# Altium footprint library PCB - LEADED - TI DGG-R-PDSO-G48N.PCBLIB: 1 footprints
Each footprint in its own frame and in the unit in brackets; x right, y up, seen from the top. Pads: shape width x height; smd on the part's side, far side on the other; paste and mask are expansions set on the pad; w line width, h text height; cw(c..) or ccw(c..) is an arc to the next point about the centre after c.
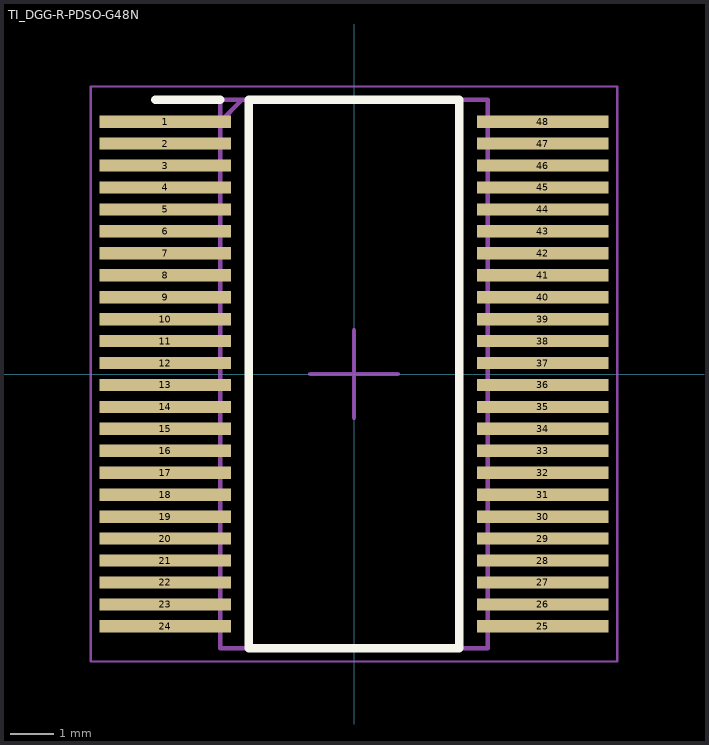
[diagram p0: the footprint, top view; thin cyan lines are the x and y axes]

## TI_DGG-R-PDSO-G48N [mm]
pads (48):
  rect 3x0.28 smd mask+0.05: 1(-4.3,5.75) 2(-4.3,5.25) 3(-4.3,4.75) 4(-4.3,4.25) 5(-4.3,3.75) 6(-4.3,3.25) 7(-4.3,2.75) 8(-4.3,2.25) 9(-4.3,1.75) 10(-4.3,1.25) 11(-4.3,0.75) 12(-4.3,0.25) 13(-4.3,-0.25) 14(-4.3,-0.75) 15(-4.3,-1.25) 16(-4.3,-1.75) 17(-4.3,-2.25) 18(-4.3,-2.75) 19(-4.3,-3.25) 20(-4.3,-3.75) 21(-4.3,-4.25) 22(-4.3,-4.75) 23(-4.3,-5.25) 24(-4.3,-5.75) 25(4.3,-5.75) 26(4.3,-5.25) 27(4.3,-4.75) 28(4.3,-4.25) 29(4.3,-3.75) 30(4.3,-3.25) 31(4.3,-2.75) 32(4.3,-2.25) 33(4.3,-1.75) 34(4.3,-1.25) 35(4.3,-0.75) 36(4.3,-0.25) 37(4.3,0.25) 38(4.3,0.75) 39(4.3,1.25) 40(4.3,1.75) 41(4.3,2.25) 42(4.3,2.75) 43(4.3,3.25) 44(4.3,3.75) 45(4.3,4.25) 46(4.3,4.75) 47(4.3,5.25)
  rect 3x0.28 smd paste+0 mask+0.05: 48(4.3,5.75)
Top Overlay:
  lines w0.2: -4.525,6.25 -3.05,6.25 ; -2.4,-6.25 -2.4,6.25 2.4,6.25 2.4,-6.25 -2.4,-6.25
  text ".Designator" at -4.521,6.911 h1.5
Top Assembly:
  lines w0.1: -3.05,5.75 -2.55,6.25 ; -3.05,-6.25 -3.05,6.25 3.05,6.25 3.05,-6.25 -3.05,-6.25
Top Courtyard:
  lines w0.05: -6,-6.55 -6,6.55 6,6.55 6,-6.55 -6,-6.55
Top Designator:
  text ".Designator" at -0.279,4.445 h1.5
Top Component Center (Mech11):
  lines w0.1: -1,0 1,0 ; 0,-1 0,1
3D body "SN74LVCH16T245DGGR.stp": height 1.2, standoff 0, extent -4.05,-6.25 4.05,6.25